# Altium integrated library Capacitors.IntLib: 2 symbols
Pins are listed as number, name and electrical type; pins without a type are passive.

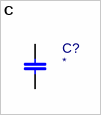
[diagram p0: symbol C]

## C
designator C?
ID: *; PDF: *; PRICE: *; BUY_LINK: *
footprint C0603
footprint C0805
footprint C1206
footprint C0402
footprint C1016
footprint C1500
footprint C1210
footprint C1812
pins: 1, 2


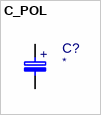
[diagram p1: symbol C_POL]

## C_POL
designator C?
ID: *; BUY_LINK: *; PRICE: *
footprint E_SIZE
footprint ACASE
footprint E_SIZE
footprint C12_05
footprint DCASE
pins: +, -